# Altium schematic symbol library CD74HC238M96.Schlib: 1 symbol
Pins are listed as number, name and electrical type; pins without a type are passive.

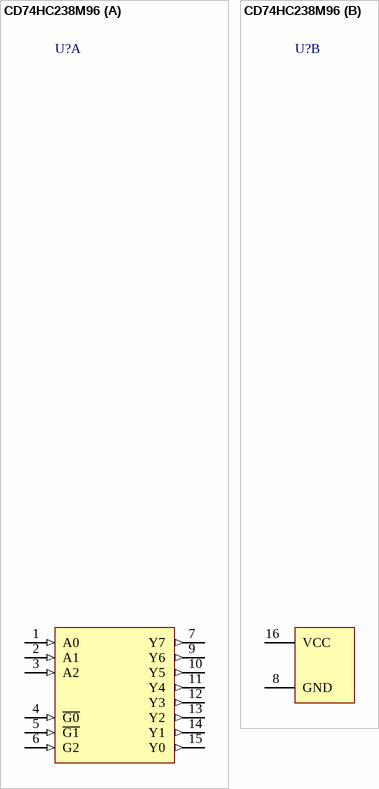
[diagram p0: symbol CD74HC238M96]

## CD74HC238M96
designator U?
part A pins: 1 A0 (in), 2 A1 (in), 3 A2 (in), 4 ~{G0} (in), 5 ~{G1} (in), 6 G2 (in), 7 Y7 (out), 9 Y6 (out), 10 Y5 (out), 11 Y4 (out), 12 Y3 (out), 13 Y2 (out), 14 Y1 (out), 15 Y0 (out)
part B pins: 8 GND (power), 16 VCC (power)